# Altium integrated library CD4066BE.IntLib: 1 symbol
Pins are listed as number, name and electrical type; pins without a type are passive.

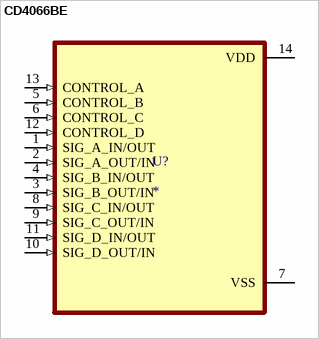
[diagram p0: symbol CD4066BE]

## CD4066BE
designator U?
10-pA on-state leakage current, 20-V, 1:1 (SPST), 4-channel analog switch; MP: CD4066BE; MF: Texas Instruments; Value: *; SnapEDA_Link: https://www.snapeda.com/parts/CD4066BE/Texas+Instruments/view-part/?ref=snap; Purchase-URL: https://pricing.snapeda.com/search/part/CD4066BE/?ref=eda; Check_prices: https://www.snapeda.com/parts/CD4066BE/Texas+Instruments/view-part/?ref=eda; Availability: In Stock; Price: None; Package: PDIP-14 Texas Instruments
footprint DIP794W45P254L1969H508Q14
pins: 1 SIG_A_IN/OUT (in), 2 SIG_A_OUT/IN (in), 3 SIG_B_OUT/IN (in), 4 SIG_B_IN/OUT (in), 5 CONTROL_B (in), 6 CONTROL_C (in), 7 VSS (power), 8 SIG_C_IN/OUT (in), 9 SIG_C_OUT/IN (in), 10 SIG_D_OUT/IN (in), 11 SIG_D_IN/OUT (in), 12 CONTROL_D (in), 13 CONTROL_A (in), 14 VDD (power)